# Altium footprint library LPEDT_proj_lib.PcbLib: 47 footprints (part 2 of 3)
Each footprint in its own frame and in the unit in brackets; x right, y up, seen from the top. Pads: shape width x height; smd on the part's side, far side on the other; paste and mask are expansions set on the pad; w line width, h text height; cw(c..) or ccw(c..) is an arc to the next point about the centre after c.
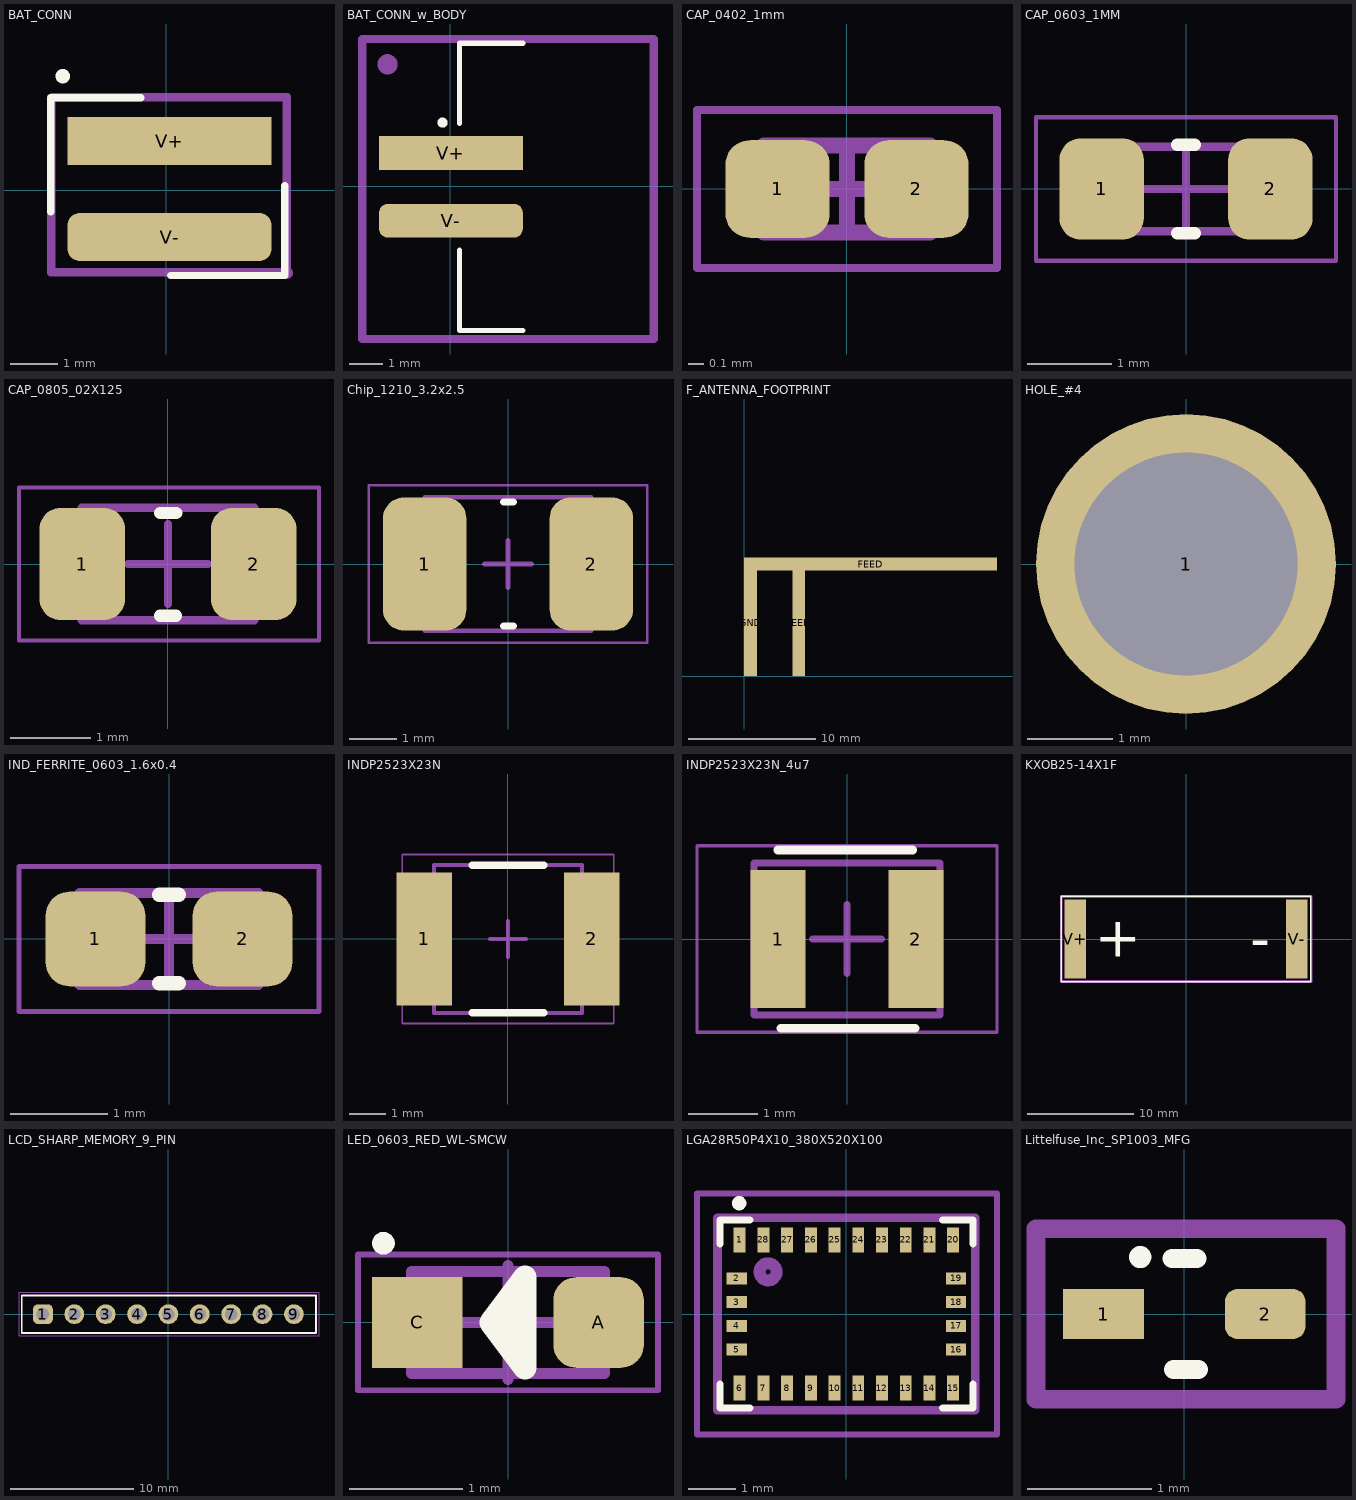
[diagram p1: the footprints below, top view; thin cyan lines are the x and y axes]

## BAT_CONN [mil] "2.00MM_PITCH"
pads (2):
  rect 170x40 smd paste+0 mask+2: V+(3,41)
  rrect50% 170x40 smd paste+0 mask+2: V-(3,-39)
Top Overlay:
  circle w6: c-86,95 r3
  lines w6: -96,-18 -96,77 -21,77 ; 4,-71 99,-71 99,4
Mech 13 Assly info:
  lines w6: 99,-69 -96,-69 -96,77 100,77 100,-70
  text ".Designator" at -85,-139.01 h60
Mech 15 Ctyd:
  lines w6: 100,-68 -95,-68 -95,78 101,78 101,-69
  lines w10: 100,-68 101,-69

## BAT_CONN_w_BODY [mil] "2.00MM_PITCH"
pads (2):
  rect 170x40 smd paste+0 mask+2: V+(1,39)
  rrect50% 170x40 smd paste+0 mask+2: V-(1,-41)
Top Overlay:
  circle w6: c-9,75 r3
  lines w6: 11,-76 11,-171 86,-171 ; 11,74 11,169 86,169
Mech 13 Assly info:
  circle w14: c-74,144 r5
  lines w10: -104,-181 241,-181 241,174 -104,174 -104,-181
  text ".Designator" at -79,-136.01 h60
Mech 15 Ctyd:
  lines w10: -104,-181 241,-181 241,174 -104,174 -104,-181
3D body "554600272.stp": height 274.8, standoff -0.8, extent -47.31,-160.45 210.57,158.45

## CAP_0402_1mm [mm] "1.00x0.5"
height 0.55
pads (2):
  rrect50% 0.66x0.62 smd mask+0.08: 1(-0.44,0) 2(0.44,0)
Mech 13 Assly info:
  lines w0.1: -0.525,-0.275 0.525,-0.275 0.525,0.275 -0.525,0.275 -0.525,-0.275
  text ".Designator" at -0.405,-0.158 h0.28
Mech 15 Ctyd:
  lines w0.05: -0.95,-0.5 0.95,-0.5 0.95,0.5 -0.95,0.5 -0.95,-0.5
  lines w0.1: -0.275,0 0.275,0 ; 0,-0.275 0,0.275
3D body "CAP_0402_1mm.step": height 0.55, standoff 0, extent -0.525,-0.275 0.525,0.275

## CAP_0603_1MM [mm] "Chip Capacitor, 2-Leads, Body 1.60x0.80mm, IPC Medium Density"
height 1
pads (2):
  rrect50% 1x1.2 smd: 1(-1,0) 2(1,0)
Top Overlay:
  lines w0.152: -0.1,-0.525 0.1,-0.525 ; -0.1,0.525 0.1,0.525
Mech 13 Assly info:
  lines w0.1: -0.9,-0.5 -0.9,0.5 0.9,0.5 0.9,-0.5 -0.9,-0.5
  text ".Designator" at -0.723,-0.254 h0.5
Mech 15 Ctyd:
  lines w0.05: -1.778,-0.85 -1.778,0.85 1.778,0.85 1.778,-0.85 -1.778,-0.85
  lines w0.1: -0.5,0 0.5,0 ; 0,-0.5 0,0.5
3D body "CAP_0603_1608X10.step": height 1, standoff 0, extent -0.9,-0.5 0.9,0.5

## CAP_0805_02X125 [mil] "Chip Capacitor, 2-Leads, Body 2.00x1.25mm, IPC Medium Density"
height 55.12
pads (2):
  rrect50% 42x55.12 smd: 1(-42,0) 2(42,0)
Top Overlay:
  lines w6: -3.94,-25.34 3.94,-25.34 ; -3.87,25 4,25
Mech 13 Assly info:
  lines w3.94: -42.32,-27.56 42.32,-27.56 42.32,27.56 -42.32,27.56 -42.32,-27.56
  text ".Designator" at -31.34,-11.34 h24.57
Mech 15 Ctyd:
  lines w1.97: -73,-37.4 74,-37.4 74,37.4 -73,37.4 -73,-37.4
  lines w3.94: -19.69,0 19.68,0 ; 0,-19.68 0,19.69
3D body "CAP_0805_02X125.step": height 55.12, standoff 0, extent -42.32,-27.56 42.32,27.56

## Chip_1210_3.2x2.5 [mm]
height 2.8
pads (2):
  rrect50% 1.75x2.8 smd: 1(-1.75,0) 2(1.75,0)
Top Overlay:
  lines w0.152: -0.087,-1.3 0.113,-1.3 ; -0.087,1.3 0.113,1.3
Mech 13 Assly info:
  lines w0.1: -1.75,-1.4 1.75,-1.4 1.75,1.4 -1.75,1.4 -1.75,-1.4
  text ".Designator" at -1.448,-0.982 h1.02
Mech 15 Ctyd:
  lines w0.05: -2.921,-1.65 2.921,-1.65 2.921,1.65 -2.921,1.65 -2.921,-1.65
  lines w0.1: -0.5,0 0.5,0 ; 0,-0.5 0,0.5
3D body "Chip_1210_3.2x2.5.step": height 2.8, standoff 0, extent -1.75,-1.4 1.75,1.4

## F_ANTENNA_FOOTPRINT [mil]
pads (3):
  rect 40x331 smd paste-20 mask+0: FEED(169,165.5) GND(20,165.5)
  rect 782x39 smd paste-19.5 mask+0: FEED(391,347)

## HOLE_#4 [mm]
pads (1):
  round 3.5 hole 2.6: 1(0,0)

## IND_FERRITE_0603_1.6x0.4 [mm] "1.6x0.4x0.8"
height 0.95
pads (2):
  rrect50% 1.03x0.98 smd: 1(-0.76,0) 2(0.76,0)
Top Overlay:
  lines w0.152: -0.102,-0.457 0.098,-0.457 ; -0.102,0.457 0.098,0.457
Mech 13 Assly info:
  lines w0.1: -0.925,-0.475 -0.925,0.475 0.925,0.475 0.925,-0.475 -0.925,-0.475
  text ".Designator" at -0.696,-0.275 h0.5
Mech 15 Ctyd:
  lines w0.05: -1.55,-0.75 -1.55,0.75 1.55,0.75 1.55,-0.75 -1.55,-0.75
  lines w0.1: -0.475,0 0.475,0 ; 0,-0.475 0,0.475
3D body "IND_FERRITE_0603.step": height 0.95, standoff 0, extent -0.925,-0.475 0.925,0.475

## INDP2523X23N [mm] "4u7 1.55A"
height 1.2
pads (2):
  rect 1.5x3.6 smd: 1(-2.275,0) 2(2.275,0)
Top Overlay:
  lines w0.2: -0.975,-2 0.975,-2 ; -0.975,2 0.975,2
Mech 13 Assly info:
  lines w0.1: -2.01,-2.01 -2.01,2.01 2.01,2.01 2.01,-2.01 -2.01,-2.01
  text ".Designator" at -1.143,-1.448 h1.52
Mech 15 Ctyd:
  lines w0.05: -2.875,-2.3 -2.875,2.3 2.875,2.3 2.875,-2.3 -2.875,-2.3
  lines w0.1: -0.5,0 0.5,0 ; 0,-0.5 0,0.5
3D body "INDP2523X23_N.step": height 1.3, standoff 0, extent -2.1,-2 2.1,2

## INDP2523X23N_4u7 [mm]
height 1.2
pads (2):
  rect 0.8x2 smd: 1(-1,0) 2(1,0)
Top Overlay:
  lines w0.127: -1,1.289 0.95,1.289 ; -0.959,-1.295 0.991,-1.295
Mech 13 Assly info:
  lines w0.1: -1.35,-1.1 -1.35,1.1 1.35,1.1 1.35,-1.1 -1.35,-1.1
  text ".Designator" at -0.978,-0.509 h1.02
Mech 15 Ctyd:
  lines w0.05: -2.175,-1.35 -2.175,1.35 2.175,1.35 2.175,-1.35 -2.175,-1.35
  lines w0.1: -0.5,0 0.5,0 ; 0,-0.5 0,0.5
3D body "INDP2523X23N_4u7.step": height 1.1, standoff 0, extent -1.145,-0.8 1.145,0.8

## KXOB25-14X1F [mm]
pads (2):
  rect 2x7.4 smd: V+(-10.4,0) V-(10.4,0)
Top Overlay:
  lines w0.127: -11.75,-4 11.75,-4 11.75,4 -11.75,4 -11.75,-4
  text "+" at -8.56,-1.676 h3.81
  text "-" at 6.045,-1.803 h3.81
Mech 13 Assly info:
  lines w0.254: -11.735,-3.988 11.76,-3.988 11.76,3.988 -11.735,3.988 -11.735,-3.988
  text ".Designator" at -8.712,-3.353 h0.76
3D body "KXOB25-14X1F-TR--3DModel-STEP-269445.STEP": height 1.8, standoff 0, extent -11.503,-4.062 11.497,3.938

## LCD_SHARP_MEMORY_9_PIN [mm]
pads (9):
  rrect50% 1.6x1.6 hole 1.02: 1(-10.16,0)
  round 1.6 hole 1.02: 2(-7.62,0) 3(-5.08,0) 4(-2.54,0) 5(0,0) 6(2.54,0) 7(5.08,0) 8(7.62,0) 9(10.16,0)
Top Overlay:
  lines w0.152: -11.874,-1.524 -11.874,1.524 11.938,1.524 11.938,-1.524 -11.874,-1.524
Mech 13 Assly info:
  lines w0.1: -11.874,-1.524 11.938,-1.524 11.938,1.524 -11.874,1.524 -11.874,-1.524
  text ".Designator" at -6.35,-0.508 h1.3
Mech 15 Ctyd:
  lines w0.05: -12.099,-1.749 -12.099,1.778 12.192,1.778 12.192,-1.749 -12.099,-1.749
3D body "PRPC009SAAN-RC (1).STEP": height 7.62, standoff -3.05, extent -11.43,-1.27 11.43,1.27

## LED_0603_RED_WL-SMCW [mm] "SODFL, 2-Leads, Body 0.80x1.80mm, IPC Medium Density"
height 0.8
pads (2):
  rrect50% 0.8x0.8 smd: A(0.8,0)
  rect 0.8x0.8 smd: C(-0.8,0)
Top Overlay:
  circle w0.1: c-1.1,0.7 r0.05
  lines w0.2: -0.15,0 0.05,0
  lines w0.205: -0.15,0 0.15,-0.4 0.15,0.4 -0.15,0
Mech 13 Assly info:
  lines w0.1: -0.85,-0.45 -0.85,0.45 0.85,0.45 0.85,-0.45 -0.85,-0.45
  text ".Designator" at -0.723,-0.254 h0.5
Mech 15 Ctyd:
  lines w0.05: -1.325,-0.6 -1.325,0.6 1.325,0.6 1.325,-0.6 -1.325,-0.6
  lines w0.1: -0.5,0 0.5,0 ; 0,-0.5 0,0.5
3D body "150060AS75000_STP_150060xS75000_rev1.stp": height 0.7, standoff 0, extent -0.8,-0.4 0.8,0.4

## LGA28R50P4X10_380X520X100 [mm]
pads (28):
  rect 0.25x0.525 smd mask+0.051: 1(-2.25,1.563) 6(-2.25,-1.562) 7(-1.75,-1.562) 8(-1.25,-1.562) 9(-0.75,-1.562) 10(-0.25,-1.562) 11(0.25,-1.562) 12(0.75,-1.562) 13(1.25,-1.562) 14(1.75,-1.562) 15(2.25,-1.562) 20(2.25,1.563) 21(1.75,1.563) 22(1.25,1.563) 23(0.75,1.563) 24(0.25,1.563) 25(-0.25,1.563) 26(-0.75,1.563) 27(-1.25,1.563) 28(-1.75,1.563)
  rect 0.425x0.25 smd mask+0.051: 2(-2.312,0.75) 3(-2.312,0.25) 4(-2.312,-0.25) 5(-2.312,-0.75) 16(2.313,-0.75) 17(2.313,-0.25) 18(2.313,0.25) 19(2.313,0.75)
Top Overlay:
  circle w0.152: c-2.261,2.337 r0.076
  lines w0.152: -2.667,-1.473 -2.667,-1.981 -2.159,-1.981 -2.032,-1.981 ; -2.667,1.473 -2.667,1.981 -2.032,1.981 ; 2.032,-1.981 2.159,-1.981 2.667,-1.981 2.667,-1.473 ; 2.032,1.981 2.667,1.981 2.667,1.473
Mech 13 Assly info:
  circle w0.254: c-1.651,0.889 r0.18
  lines w0.18: -2.718,-2.032 -2.718,2.032 2.718,2.032 2.718,-2.032 -2.718,-2.032
  text ".Designator" at -2.413,-1.27 h1.52
Mech 15 Ctyd:
  lines w0.127: -3.15,-2.54 3.175,-2.54 3.175,2.54 -3.15,2.54 -3.15,-2.54
3D body "BNO055--3DModel-STEP-56544.STEP": height 1.18, standoff 0, extent -2.6,-1.9 2.6,1.9

## Littelfuse_Inc_SP1003_MFG [mm]
pads (2):
  rect 0.65x0.4 smd paste+0 mask+0.051: 1(-0.65,0)
  rrect50% 0.65x0.4 smd paste+0 mask+0.051: 2(0.65,0)
Top Overlay:
  circle w0.152: c-0.356,0.457 r0.013
  lines w0.152: -0.098,0.446 0.102,0.446 ; -0.087,-0.446 0.113,-0.446
Mech 13 Assly info:
  lines w0.152: -1.194,-0.686 -1.194,0.686 1.219,0.686 1.219,-0.686 -1.194,-0.686
  text ".Designator" at -0.94,-0.423 h0.64
Mech 15 Ctyd:
  lines w0.152: -1.194,-0.686 -1.194,0.686 1.219,0.686 1.219,-0.686 -1.194,-0.686
3D body "Diode_Littelfuse_Inc_SP1003-01DTG_eec.STEP": height 0.65, standoff 0, extent -0.7,-0.3 0.7,0.3